# EAGLE library part CONNECTOR-AVR-ISP_? (library LM555-Jessica-Ly)
AVR ISP 6-pin Header Reference <https://en.wikipedia.org/wiki/In-system_programming>
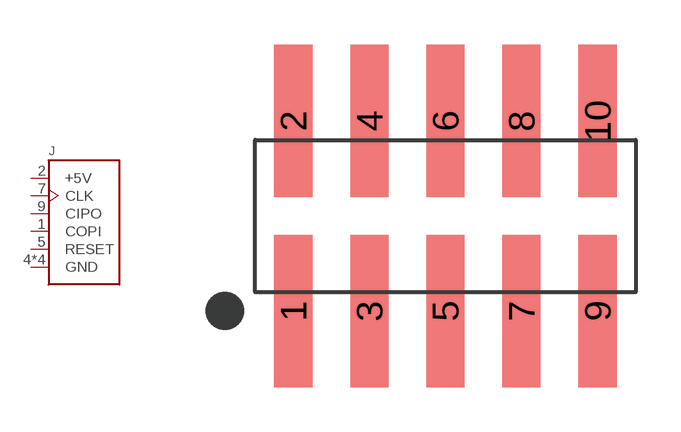
[diagram p1: symbol with the pads of 2X05_SMD; footprint 2X05_SMD]

Designator prefix J

## CONNECTOR-AVR-ISP_2X05_SMD (DKPN: S2351E-05-ND; MANUFACTURER: Sullins Connector Solutions; MPN: GBC05DABN-M30)  [2X05_SMD]
1  COPI
2  +5V  pwr
4  GND  pwr
5  RESET  out
6  GND  pwr
7  CLK
8  GND  pwr
9  CIPO
10  GND  pwr

## Footprint 2X05_SMD (pad centres in mm)
10-pin Header SMD Header Datasheet <https://s3.amazonaws.com/catalogspreads-pdf/PAGE112-113%20.100%20MALE%20HDR.pdf> Footprint <https://drawings-pdf.s3.amazonaws.com/C10059.pdf>
smd 1.27 x 5.08: 1 -5.08,-3.175; 2 -5.08,3.175; 3 -2.54,-3.175; 4 -2.54,3.175; 5 0,-3.175; 6 0,3.175; 7 2.54,-3.175; 8 2.54,3.175; 9 5.08,-3.175; 10 5.08,3.175